# Altium schematic symbol library FL2500213Z.SchLib: 1 symbol
Pins are listed as number, name and electrical type; pins without a type are passive.

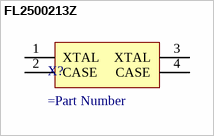
[diagram p0: symbol FL2500213Z]

## FL2500213Z
designator X?
=Description
pins: 1 XTAL, 2 CASE, 3 XTAL, 4 CASE